# EAGLE library part AUDIO-JACK-6POLE (library pimoroni)
Stereo audio jack with bypass switches.
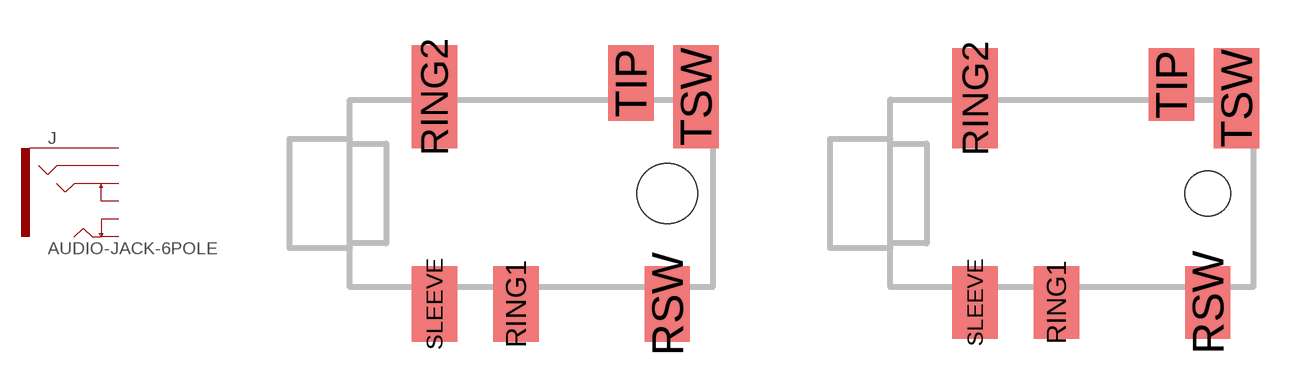
[diagram p61: symbol with the pads of AUDIO-JACK-3.5MM-SMD-6POLE; footprints AUDIO-JACK-3.5MM-SMD-6POLE, AUDIO-JACK-3.5MM-SMD-6POLE-NARROW]

Designator prefix J

## AUDIO-JACK-6POLE  [AUDIO-JACK-3.5MM-SMD-6POLE]
RING1  RING1
RING2  RING2
RSW  RSW
SLEEVE  SLEEVE
TIP  TIP
TSW  TSW

## AUDIO-JACK-6POLE6P_NARROW  [AUDIO-JACK-3.5MM-SMD-6POLE-NARROW]
Pads as for AUDIO-JACK-3.5MM-SMD-6POLE

## Footprint AUDIO-JACK-3.5MM-SMD-6POLE (pad centres in mm)
smd 1.5 x 2.5: RING1 5.5,-3.65; RSW 10.5,-3.65; SLEEVE 2.8,-3.65; TIP 9.3,3.65
smd 1.5 x 3.4: RING2 2.8,3.2; TSW 11.45,3.2
hole 2 at 10.5,0

## Footprint AUDIO-JACK-3.5MM-SMD-6POLE-NARROW (pad centres in mm)
smd 1.5 x 2.4: RING1 5.5,-3.6; RSW 10.5,-3.6; SLEEVE 2.8,-3.6; TIP 9.3,3.6
smd 1.5 x 3.3: RING2 2.8,3.15; TSW 11.45,3.15
hole 1.5 at 10.5,0